# Altium schematic symbol library Schlib1.SchLib: 4 symbols
Pins are listed as number, name and electrical type; pins without a type are passive.

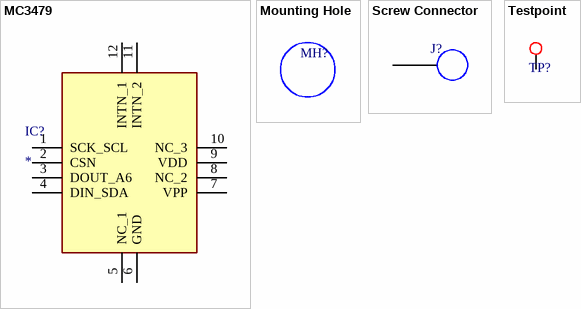
[diagram p0: symbols MC3479 to Testpoint]

## MC3479
designator IC?
Integrated Circuit; Manufacturer_Name: MEMSIC; Manufacturer_Part_Number: MC3479; Description: Accelerometers Small Digital 3-axis Accelerometer Sensor; Datasheet Link: http://www.memsic.com/uploadfiles/2020/08/20200827164636363.pdf; Height: 1mm; Mouser Part Number: 498-MC3479; Mouser Price/Stock: https://www.mouser.co.uk/ProductDetail/MEMSIC/MC3479?qs=OlC7AqGiEDmYmlaMvA9fTA%3D%3D; Arrow Part Number: MC3479; Arrow Price/Stock: null?region=nac
footprint MC3479
pins: 1 SCK_SCL, 2 CSN, 3 DOUT_A6, 4 DIN_SDA, 5 NC_1, 6 GND, 7 VPP, 8 NC_2, 9 VDD, 10 NC_3, 11 INTN_2, 12 INTN_1

## Mounting Hole
designator MH?
footprint Mounting Hole

## Screw Connector
designator J?
footprint Power Screw Terminal
pins: 1

## Testpoint
designator TP?, comment TP  (value not drawn)
footprint Testpoint
pins: 0